# EAGLE library part SWD-6 (library jtag)
STM32Fx Discovery
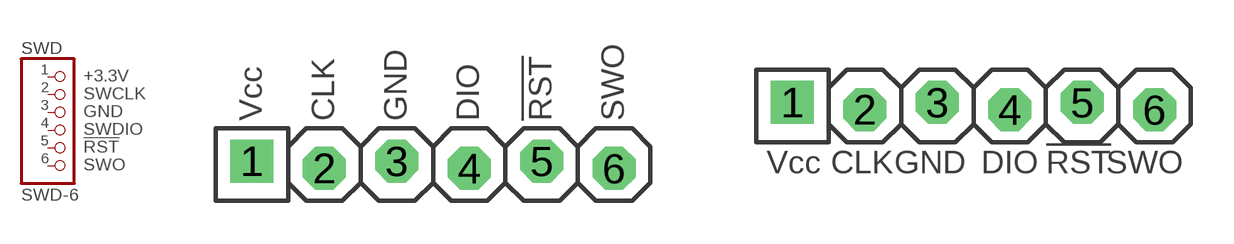
[diagram p1: symbol with the pads of JTAG6PIN; footprints JTAG6PIN, SWD6PIN_L]

Designator prefix SWD

## SWD-6  [JTAG6PIN]
1  1  pas
2  2  pas
3  3  pas
4  4  pas
5  5  pas
6  6  pas

## SWD-6L  [SWD6PIN_L]
Pads as for JTAG6PIN

## Footprint JTAG6PIN (pad centres in mm)
drill 1 square: 1 -6.35,0.127
drill 1 octagon: 2 -3.81,-0.127; 3 -1.27,0.127; 4 1.27,-0.127; 5 3.81,0.127; 6 6.35,-0.127

## Footprint SWD6PIN_L (pad centres in mm)
drill 1 square: 1 -6.35,0.127
drill 1 octagon: 2 -3.81,-0.127; 3 -1.27,0.127; 4 1.27,-0.127; 5 3.81,0.127; 6 6.35,-0.127